# Altium footprint library VARRBO750W80L1350T640H1650.PcbLib: 1 footprints
Each footprint in its own frame and in the unit in brackets; x right, y up, seen from the top. Pads: shape width x height; smd on the part's side, far side on the other; paste and mask are expansions set on the pad; w line width, h text height; cw(c..) or ccw(c..) is an arc to the next point about the centre after c.
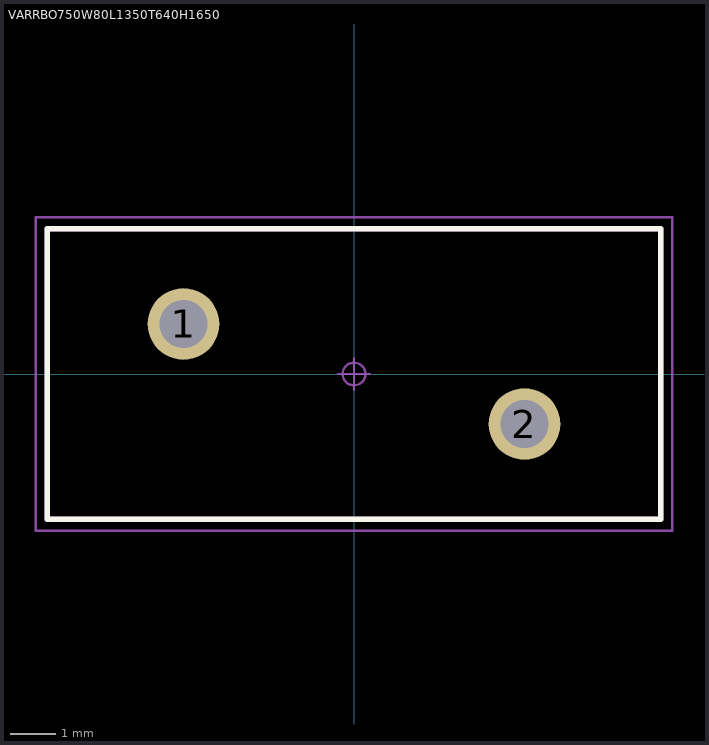
[diagram p0: the footprint, top view; thin cyan lines are the x and y axes]

## VARRBO750W80L1350T640H1650 [mm] "Varistor, Radial (Disk with Offset Leads), 7.50 mm Pitch X 0.80 mm W X 13.50 mm L X 6.40 mm T X 16.50 mm H body"
height 16.5
pads (2):
  round 1.58 hole 1.05 paste-1.58: 1(-3.75,1.1) 2(3.75,-1.1)
Top Overlay:
  lines w0.12: -6.75,-3.2 6.75,-3.2 6.75,3.2 -6.75,3.2 -6.75,-3.2
Mechanical 3:
  lines w0.12: -6.75,-3.2 6.75,-3.2 6.75,3.2 -6.75,3.2 -6.75,-3.2
Mechanical 5:
  circle w0.025: c3.75,-1.1 r0.425
  circle w0.025: c-3.75,1.1 r0.425
Mechanical 7:
  circle w0.05: c0,0 r0.25
  lines w0.025: -6.75,-3.2 6.75,-3.2 6.75,3.2 -6.75,3.2 -6.75,-3.2
  lines w0.05: -0.35,0 0.35,0 ; 0,-0.35 0,0.35 ; -7,-3.45 -7,3.45 7,3.45 7,-3.45 -7,-3.45
3D body "VARRBO750W80L1350T640H1650.STEP": height 16.5, standoff -2, extent -6.75,-3.2 6.75,3.2